# Altium footprint library Nova_PCBLIB.PcbLib: 31 footprints (part 2 of 2)
Each footprint in its own frame and in the unit in brackets; x right, y up, seen from the top. Pads: shape width x height; smd on the part's side, far side on the other; paste and mask are expansions set on the pad; w line width, h text height; cw(c..) or ccw(c..) is an arc to the next point about the centre after c.
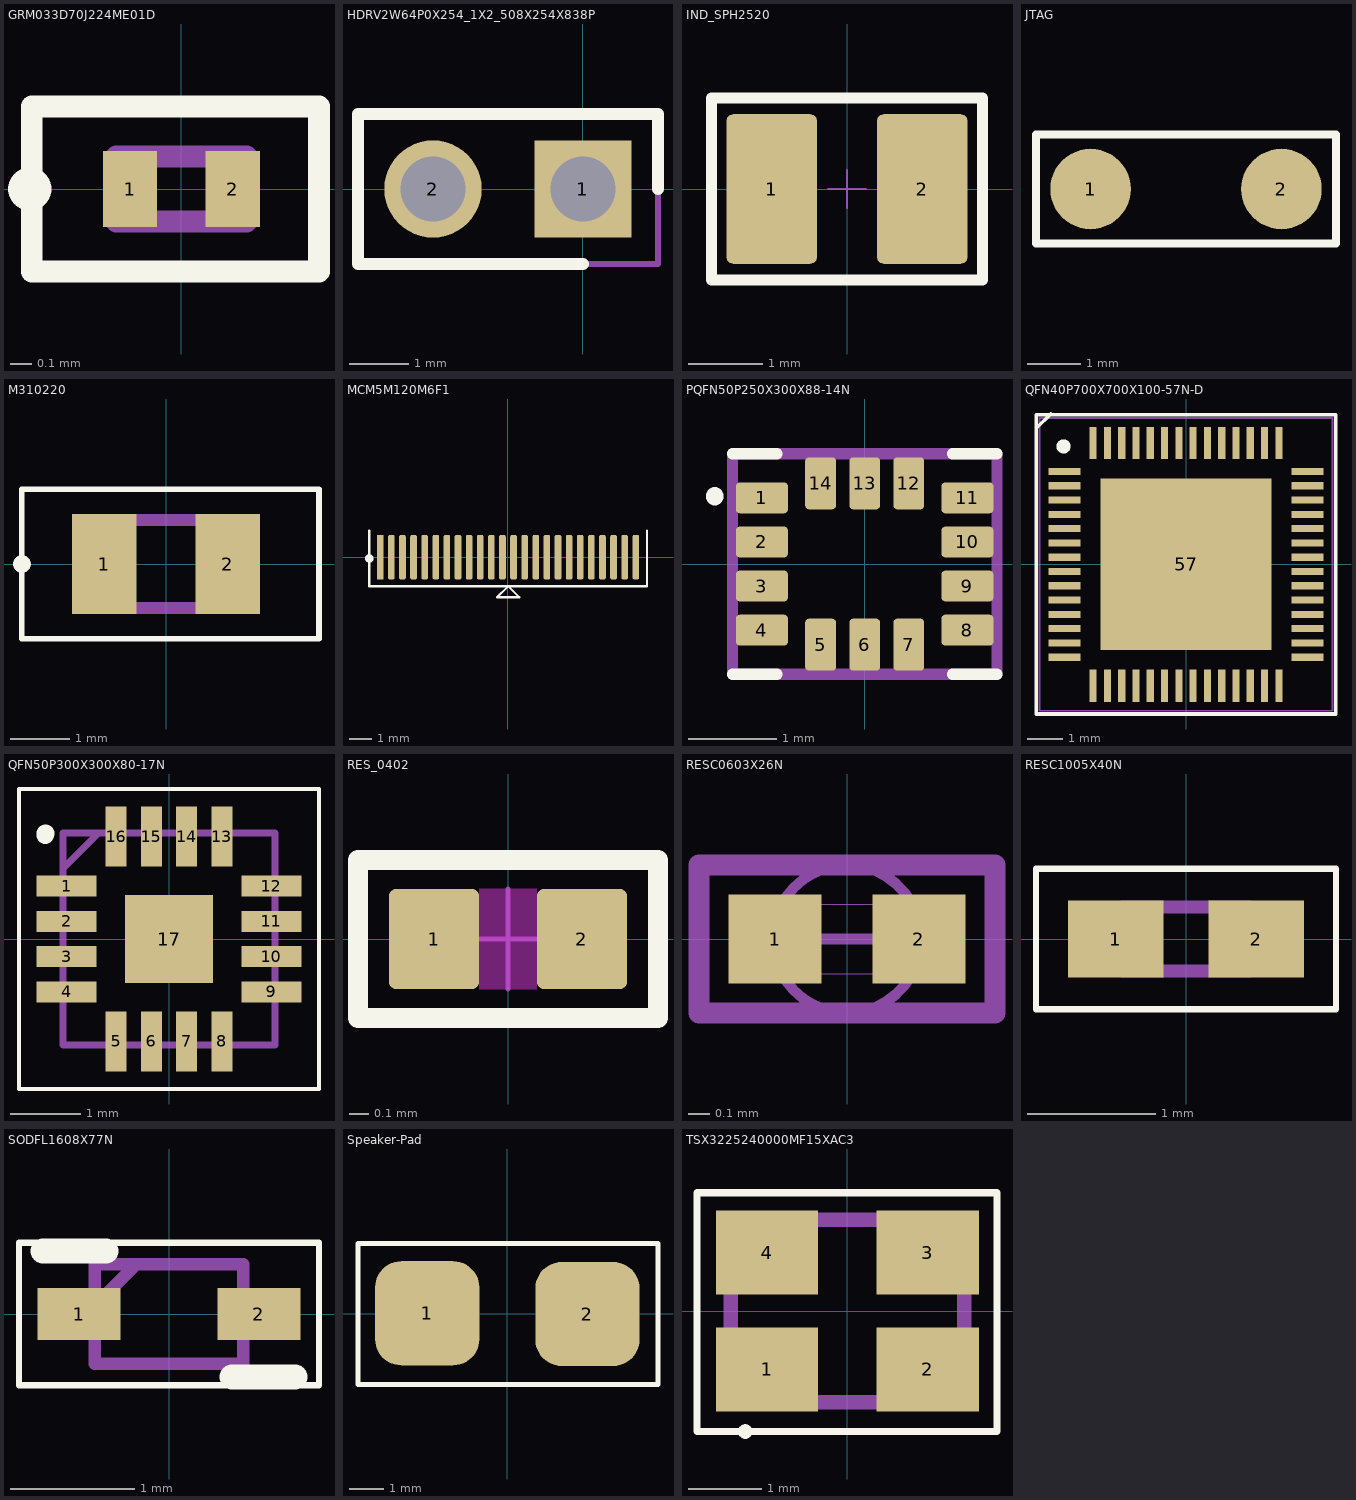
[diagram p1: the footprints below, top view; thin cyan lines are the x and y axes]

## GRM033D70J224ME01D [mm]
pads (2):
  rect 0.25x0.35 smd: 1(-0.237,0) 2(0.237,0)
Top Overlay:
  lines w0.1: -0.7,-0.05 ccw(c-0.7,0) -0.7,0.05 ccw(c-0.7,0) -0.7,-0.05 ; -0.691,-0.381 0.635,-0.381 0.635,0.381 -0.691,0.381 -0.691,-0.381
Mechanical 13:
  lines w0.1: -0.3,-0.15 -0.3,0.15 0.3,0.15 0.3,-0.15 -0.3,-0.15
3D body "GRM033C81A224KE01J.stp": height 0.3, standoff 0, extent -0.3,-0.15 0.3,0.15

## HDRV2W64P0X254_1X2_508X254X838P [mm]
pads (2):
  rect 1.65x1.65 hole 1.1: 1(0,0)
  round 1.65 hole 1.1: 2(-2.54,0)
Top Overlay:
  lines w0.2: 0,-1.27 -3.81,-1.27 -3.81,1.27 1.27,1.27 1.27,0
Mechanical 13:
  lines w0.1: -3.81,-1.27 -3.81,1.27 1.27,1.27 1.27,-1.27 -3.81,-1.27
3D body "TSW-102-07-G-S-002.stp": height 8.38, standoff -2.54, extent -3.81,-1.27 1.27,1.27

## IND_SPH2520 [mil] "INDUCTOR_IND_SPH2520_DISCRETE_1\By AAR"
pads (2):
  rrect15% 48x79 smd mask+3.94: 1(-39.75,0) 2(39.75,0)
Top Overlay:
  lines w5.91: -71.65,-48.03 71.65,-48.03 71.65,48.03 -71.65,48.03 -71.65,-48.03
Mechanical 9:
  lines w1: -10,0 10,0 ; 0,-10 0,10
Mechanical 46:
  text "2" at 49.59,-2.82 h15.75
  text "1" at -29.91,-3.49 h15.75
3D body "WPN252012H v4.step": height 53.15, standoff 0, extent -48.82,-39.37 49.6,39.37

## JTAG [mm]
pads (2):
  round 1.5 smd: 1(-23.876,41.656) 2(-20.32,41.656)
Top Overlay:
  lines w0.15: -24.892,40.64 -24.892,42.672 -19.304,42.672 -19.304,40.64 -24.892,40.64

## M310220 [mm]
pads (2):
  rect 1.1x1.7 smd: 1(-1.05,0) 2(1.05,0)
Top Overlay:
  lines w0.1: -2.453,-1.27 2.6,-1.27 2.6,1.27 -2.453,1.27 -2.453,-1.27
  lines w0.2: -2.5,0 ccw(c-2.45,0) -2.4,0 ; -2.5,0 cw(c-2.45,0) -2.4,0 ; -2.5,0 ccw(c-2.45,0) -2.4,0
Mechanical 13:
  lines w0.2: -1.5,-0.75 1.5,-0.75 1.5,0.75 -1.5,0.75 -1.5,-0.75
3D body "M310220_KAV.step": height 1.17, standoff 0, extent -1.6,-0.851 1.6,0.851

## MCM5M120M6F1 [mm]
pads (24):
  rect 0.3x2 smd mask+0.05: 1(-5.75,0)
  rrect50% 0.3x2 smd mask+0.05: 2(-5.25,0) 3(-4.75,0) 4(-4.25,0) 5(-3.75,0) 6(-3.25,0) 7(-2.75,0) 8(-2.25,0) 9(-1.75,0) 10(-1.25,0) 11(-0.75,0) 12(-0.25,0) 13(0.25,0) 14(0.75,0) 15(1.25,0) 16(1.75,0) 17(2.25,0) 18(2.75,0) 19(3.25,0) 20(3.75,0) 21(4.25,0) 22(4.75,0) 23(5.25,0) 24(5.75,0)
Top Overlay:
  circle w0.254: c-6.243,-0.056 r0.061
  lines w0.1: -6.243,1.194 -6.243,-1.306 6.257,-1.306 6.257,1.194 ; -0.493,-1.806 0.007,-1.306 0.507,-1.806 -0.493,-1.806

## PQFN50P250X300X88-14N [mm]
pads (14):
  rrect25% 0.59x0.35 smd mask+0.051: 1(-1.165,0.75) 2(-1.165,0.25) 3(-1.165,-0.25) 4(-1.165,-0.75) 8(1.165,-0.75) 9(1.165,-0.25) 10(1.165,0.25) 11(1.165,0.75)
  rrect25% 0.35x0.59 smd mask+0.051: 5(-0.5,-0.915) 6(0,-0.915) 7(0.5,-0.915) 12(0.5,0.915) 13(0,0.915) 14(-0.5,0.915)
Top Overlay:
  lines w0.127: -1.5,-1.25 -0.995,-1.25 ; -1.5,1.25 -0.995,1.25 ; 0.995,-1.25 1.5,-1.25 ; 0.995,1.25 1.5,1.25
  lines w0.2: -1.702,0.762 ccw(c-1.802,0.768) -1.702,0.774
Mechanical 13:
  lines w0.127: -1.5,-1.25 1.5,-1.25 1.5,1.25 -1.5,1.25 -1.5,-1.25

## QFN40P700X700X100-57N-D [mm]
pads (57):
  rect 0.9x0.2 smd: 1(-3.4,2.6) 2(-3.4,2.2) 3(-3.4,1.8) 4(-3.4,1.4) 5(-3.4,1) 6(-3.4,0.6) 7(-3.4,0.2) 8(-3.4,-0.2) 9(-3.4,-0.6) 10(-3.4,-1) 11(-3.4,-1.4) 12(-3.4,-1.8) 13(-3.4,-2.2) 14(-3.4,-2.6) 29(3.4,-2.6) 30(3.4,-2.2) 31(3.4,-1.8) 32(3.4,-1.4) 33(3.4,-1) 34(3.4,-0.6) 35(3.4,-0.2) 36(3.4,0.2) 37(3.4,0.6) 38(3.4,1) 39(3.4,1.4) 40(3.4,1.8) 41(3.4,2.2) 42(3.4,2.6)
  rect 0.2x0.9 smd: 15(-2.6,-3.4) 16(-2.2,-3.4) 17(-1.8,-3.4) 18(-1.4,-3.4) 19(-1,-3.4) 20(-0.6,-3.4) 21(-0.2,-3.4) 22(0.2,-3.4) 23(0.6,-3.4) 24(1,-3.4) 25(1.4,-3.4) 26(1.8,-3.4) 27(2.2,-3.4) 28(2.6,-3.4) 43(2.6,3.4) 44(2.2,3.4) 45(1.8,3.4) 46(1.4,3.4) 47(1,3.4) 48(0.6,3.4) 49(0.2,3.4) 50(-0.2,3.4) 51(-0.6,3.4) 52(-1,3.4) 53(-1.4,3.4) 54(-1.8,3.4) 55(-2.2,3.4) 56(-2.6,3.4)
  rect 4.8x4.8 smd: 57(0,0)
Top Overlay:
  circle w0.2: c-3.429,3.302 r0.1
  lines w0.1: -4.191,3.81 -3.791,4.21 ; -4.191,-4.191 4.191,-4.191 4.191,4.191 -4.191,4.191 -4.191,-4.191
Mechanical 20:
  lines w0.05: -4.1,-4.1 4.1,-4.1 4.1,4.1 -4.1,4.1 -4.1,-4.1

## QFN50P300X300X80-17N [mm]
pads (17):
  rect 0.85x0.3 smd: 1(-1.45,0.75) 2(-1.45,0.25) 3(-1.45,-0.25) 4(-1.45,-0.75) 9(1.45,-0.75) 10(1.45,-0.25) 11(1.45,0.25) 12(1.45,0.75)
  rect 0.3x0.85 smd: 5(-0.75,-1.45) 6(-0.25,-1.45) 7(0.25,-1.45) 8(0.75,-1.45) 13(0.75,1.45) 14(0.25,1.45) 15(-0.25,1.45) 16(-0.75,1.45)
  rect 1.25x1.25 smd: 17(0,0)
Top Overlay:
  lines w0.05: -2.125,-2.125 -2.125,2.125 2.125,2.125 2.125,-2.125 -2.125,-2.125
  lines w0.25: -1.753,1.471 ccw(c-1.875,1.5) -1.75,1.5
Mechanical 13:
  lines w0.1: -1.5,1 -1,1.5 ; -1.5,-1.5 -1.5,1.5 1.5,1.5 1.5,-1.5 -1.5,-1.5
3D body "MAX98357AETE+.stp": height 0.8, standoff 0, extent -1.55,-1.55 1.55,1.55

## RES_0402 [mil]
pads (2):
  rrect15% 18x20 smd mask+3.15: 1(-14.76,0) 2(14.76,0)
Top Layer keep-out:
  region: -5.75,10 -5.75,-10 5.75,-10 5.75,10
  region: -5.75,10 -5.75,-10 5.75,-10 5.75,10
Top Overlay:
  lines w3.94: -29.92,-15.75 29.92,-15.75 29.92,15.75 -29.92,15.75 -29.92,-15.75
Mechanical 9:
  lines w1: -10,0 10,0 ; 0,-10 0,10
3D body "742843122.stp": height 18.9, standoff -0.79, extent -19.68,-9.84 19.69,9.84

## RESC0603X26N [mm]
pads (2):
  rect 0.44x0.42 smd: 1(-0.34,0) 2(0.34,0)
Mechanical 13:
  lines w0.1: -0.7,-0.35 -0.7,0.35 0.7,0.35 0.7,-0.35 -0.7,-0.35
Mechanical 15:
  circle w0.05: c0,0 r0.35
  lines w0.001: -0.315,-0.165 -0.315,0.165 0.315,0.165 0.315,-0.165 -0.315,-0.165
  lines w0.05: -0.5,0 0.5,0 ; -0.71,-0.36 -0.71,0.36 0.71,0.36 0.71,-0.36 -0.71,-0.36
3D body "RC0201FR-07240RL.stp": height 0.26, standoff 0, extent -0.3,-0.15 0.3,0.15

## RESC1005X40N [mm]
pads (2):
  rect 0.75x0.6 smd: 1(-0.55,0) 2(0.55,0)
Top Overlay:
  lines w0.05: -1.175,-0.55 1.175,-0.55 1.175,0.55 -1.175,0.55 -1.175,-0.55
Mechanical 13:
  lines w0.1: -0.5,-0.25 0.5,-0.25 0.5,0.25 -0.5,0.25 -0.5,-0.25
3D body "RC0402FR-0710KL.stp": height 0.4, standoff 0, extent -0.5,-0.25 0.5,0.25

## SODFL1608X77N [mm]
pads (2):
  rect 0.67x0.42 smd: 1(-0.725,0) 2(0.725,0)
Top Overlay:
  lines w0.05: -1.21,-0.575 1.21,-0.575 1.21,0.575 -1.21,0.575 -1.21,-0.575
  lines w0.2: -1.016,0.508 -0.508,0.508 ; 0.508,-0.508 1.016,-0.508
Mechanical 13:
  lines w0.1: -0.6,0.065 -0.265,0.4 ; -0.6,-0.4 0.6,-0.4 0.6,0.4 -0.6,0.4 -0.6,-0.4
3D body "TPD1E10B06DYAR.stp": height 0.77, standoff 0, extent -0.8,-0.4 0.8,0.4

## Speaker-Pad [mm]
pads (2):
  rrect50% 3x3 smd: 1(-2.306,0.01) 2(2.306,-0.01)
Top Overlay:
  lines w0.15: -4.298,-2.042 4.338,-2.042 4.338,2.022 -4.298,2.022 -4.298,-2.042

## TSX3225240000MF15XAC3 [mm]
pads (4):
  rect 1.4x1.15 smd: 1(-1.1,-0.8) 2(1.1,-0.8) 3(1.1,0.8) 4(-1.1,0.8)
Top Overlay:
  lines w0.1: -2.06,-1.65 -2.06,1.62 2.05,1.62 2.05,-1.65 -2.06,-1.65 ; -1.4,-1.7 cw(c-1.4,-1.65) -1.4,-1.6 cw(c-1.4,-1.65) -1.4,-1.7
Mechanical 13:
  lines w0.2: -1.6,-1.25 1.6,-1.25 1.6,1.25 -1.6,1.25 -1.6,-1.25
3D body "TSX-3225_24.0000MF15X-AC3.stp": height 0.6, standoff 0, extent -1.595,-1.41 1.605,1.09